# Altium footprint library TO-247-3.PcbLib: 1 footprints
Each footprint in its own frame and in the unit in brackets; x right, y up, seen from the top. Pads: shape width x height; smd on the part's side, far side on the other; paste and mask are expansions set on the pad; w line width, h text height; cw(c..) or ccw(c..) is an arc to the next point about the centre after c.
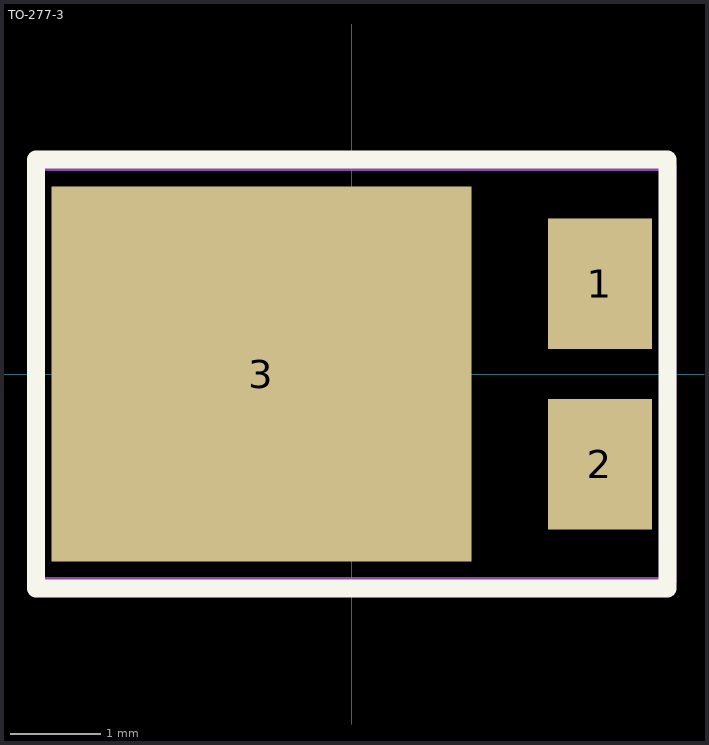
[diagram p0: the footprint, top view; thin cyan lines are the x and y axes]

## TO-277-3 [mm]
height 1.1
pads (3):
  rect 1.15x1.45 smd: 1(2.75,1) 2(2.75,-1)
  rect 4.65x4.15 smd: 3(-1,0)
Top Overlay:
  lines w0.2: -3.5,-2.375 3.5,-2.375 3.5,2.375 -3.5,2.375 -3.5,1.388 -3.5,-0.437 -3.5,-1.35 -3.5,-2.375
Top Assembly:
  lines w0.1: -3.5,-2.3 -3.5,2.3 3.55,2.3 3.55,1.869 3.55,-1.044 3.55,-2.3 -3.5,-2.3
  text "'.Designator'" at 0.375,-0.825 h0.7